# EAGLE library part FUSB2805MLX (library FaBo-USB)
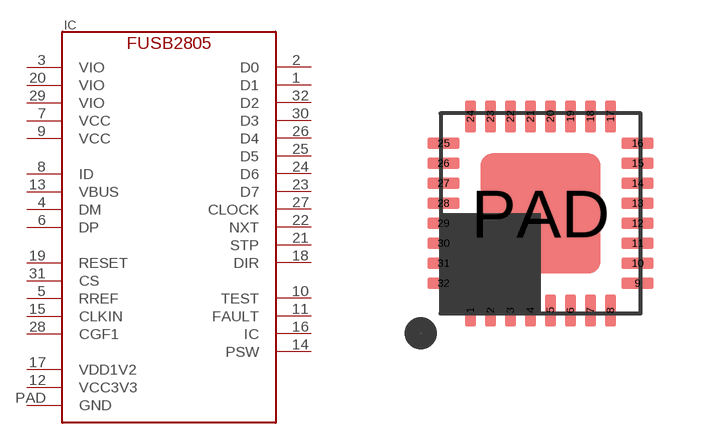
[diagram p8: symbol with the pads of FUSB2805MLX; footprint FUSB2805MLX]

Designator prefix IC

## FUSB2805MLX  [FUSB2805MLX]
1  D1
2  D0
3  VIO
4  DM
5  RREF
6  DP
7  VCC
8  ID
9  VCC
10  TEST
11  FAULT
12  VCC3V3
13  VBUS
14  PSW
15  CLKIN
16  IC
17  VDD1V2
18  DIR
19  RESET
20  VIO
21  STP
22  NXT
23  D7
24  D6
25  D5
26  D4
27  CLOCK
28  CGF1
29  VIO
30  D3
31  CS
32  D2
PAD  GND

## Footprint FUSB2805MLX (pad centres in mm)
smd 0.28 x 0.8: 1 -1.75,-2.425; 2 -1.25,-2.425; 3 -0.75,-2.425; 4 -0.25,-2.425; 5 0.25,-2.425; 6 0.75,-2.425; 7 1.25,-2.425; 8 1.75,-2.425; 17 1.75,2.425; 18 1.25,2.425; 19 0.75,2.425; 20 0.25,2.425; 21 -0.25,2.425; 22 -0.75,2.425; 23 -1.25,2.425; 24 -1.75,2.425
smd 0.8 x 0.28: 9 2.425,-1.75; 10 2.425,-1.25; 11 2.425,-0.75; 12 2.425,-0.25; 13 2.425,0.25; 14 2.425,0.75; 15 2.425,1.25; 16 2.425,1.75; 25 -2.425,1.75; 26 -2.425,1.25; 27 -2.425,0.75; 28 -2.425,0.25; 29 -2.425,-0.25; 30 -2.425,-0.75; 31 -2.425,-1.25; 32 -2.425,-1.75
smd 3 x 3: PAD 0,0